# Altium footprint library SparkFun-Switches.PCBLIB: 50 footprints (part 3 of 5)
Each footprint in its own frame and in the unit in brackets; x right, y up, seen from the top. Pads: shape width x height; smd on the part's side, far side on the other; paste and mask are expansions set on the pad; w line width, h text height; cw(c..) or ccw(c..) is an arc to the next point about the centre after c.
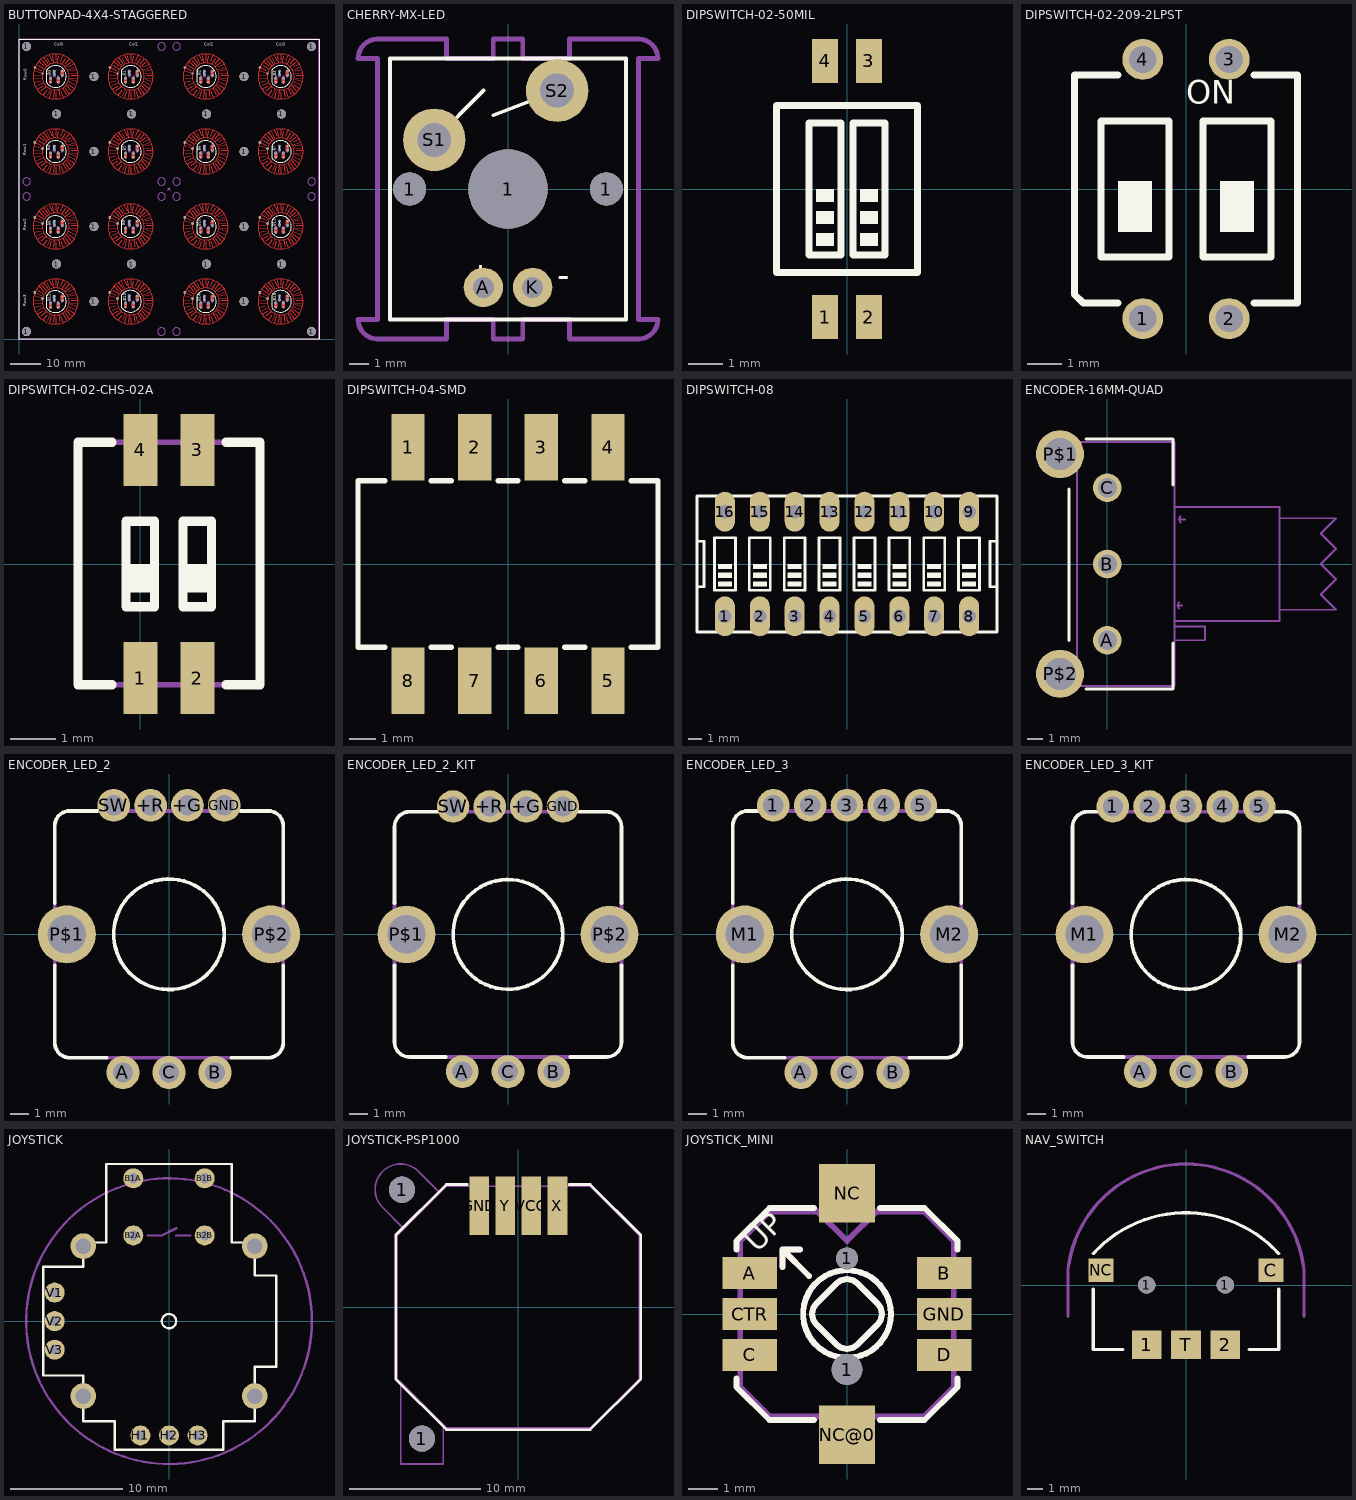
[diagram p2: the footprints below, top view; thin cyan lines are the x and y axes]

## BUTTONPAD-4X4-STAGGERED [mil]
pads (180):
  round 118.11 hole 118.11: 1(97.8,97.8) 1(97.8,3839.21) 1(492.13,984.25) 1(492.13,2952.76) 1(984.25,492.13) 1(984.25,1476.38) 1(984.25,2460.63) 1(984.25,3444.88) 1(1476.38,984.25) 1(1476.38,2952.76) 1(2460.63,984.25) 1(2460.63,2952.76) 1(2952.76,492.13) 1(2952.76,1476.38) 1(2952.76,2460.63) 1(2952.76,3444.88) 1(3444.88,984.25) 1(3444.88,2952.76) 1(3839.21,97.8) 1(3839.21,3839.21)
  round 36 hole 36: 1(413,467) 1(413,1452) 1(413,2437) 1(413,3422) 1(464,512) 1(464,1497) 1(464,2482) 1(464,3467) 1(515,467) 1(515,1452) 1(515,2437) 1(515,3422) 1(568,508) 1(568,1493) 1(568,2478) 1(568,3463) 1(1398,472) 1(1398,1452) 1(1398,2437) 1(1398,3422) 1(1449,517) 1(1449,1497) 1(1449,2482) 1(1449,3467) 1(1500,472) 1(1500,1452) 1(1500,2437) 1(1500,3422) 1(1553,513) 1(1553,1493) 1(1553,2478) 1(1553,3463) 1(2383,467) 1(2383,1452) 1(2383,2437) 1(2383,3422) 1(2434,512) 1(2434,1497) 1(2434,2482) 1(2434,3467) 1(2485,467) 1(2485,1452) 1(2485,2437) 1(2485,3422) 1(2538,508) 1(2538,1493) 1(2538,2478) 1(2538,3463) 1(3368,472) 1(3368,1452) 1(3368,2437) 1(3368,3422) 1(3419,517) 1(3419,1497) 1(3419,2482) 1(3419,3467) 1(3470,472) 1(3470,1452) 1(3470,2437) 1(3470,3422) 1(3523,513) 1(3523,1493) 1(3523,2478) 1(3523,3463)
  round 30 hole 20: BLU0(515,3371) BLU1(1500,3371) BLU2(2485,3371) BLU3(3470,3371) BLU4(515,2386) BLU5(1500,2386) BLU6(2485,2386) BLU7(3470,2386) BLU8(515,1401) BLU9(1500,1401) BLU10(2485,1401) BLU11(3470,1401) BLU12(515,416) BLU13(1500,421) BLU14(2485,416) BLU15(3470,421) GND0(464,3518) GND1(1449,3518) GND2(2434,3518) GND3(3419,3518) GND4(464,2533) GND5(1449,2533) GND6(2434,2533) GND7(3419,2533) GND8(464,1548) GND9(1449,1548) GND10(2434,1548) GND11(3419,1548) GND12(464,563) GND13(1449,568) GND14(2434,563) GND15(3419,568) GRN0(568,3514) GRN1(1553,3514) GRN2(2538,3514) GRN3(3523,3514) GRN4(568,2529) GRN5(1553,2529) GRN6(2538,2529) GRN7(3523,2529) GRN8(568,1544) GRN9(1553,1544) GRN10(2538,1544) GRN11(3523,1544) GRN12(568,559) GRN13(1553,564) GRN14(2538,559) GRN15(3523,564) RED0(413,3371) RED1(1398,3371) RED2(2383,3371) RED3(3368,3371) RED4(413,2386) RED5(1398,2386) RED6(2383,2386) RED7(3368,2386) RED8(413,1401) RED9(1398,1401) RED10(2383,1401) RED11(3368,1401) RED12(413,416) RED13(1398,421) RED14(2383,416) RED15(3368,421) SIG0(208.19,3563.5) SIG1(308.19,3483.5) SIG2(1192.44,3563.5) SIG3(1292.44,3483.5) SIG4(2176.69,3563.5) SIG5(2276.69,3483.5) SIG6(3160.94,3563.5) SIG7(3260.94,3483.5)
  round 35.43 hole 23.62: SIG8(208.19,2579.25) SIG9(308.19,2499.25) SIG10(1192.44,2579.25) SIG11(1292.44,2499.25) SIG12(2176.69,2579.25) SIG13(2276.69,2499.25) SIG14(3160.94,2579.25) SIG15(3260.94,2499.25) SIG16(208.19,1595) SIG17(308.19,1515) SIG18(1192.44,1595) SIG19(1292.44,1515) SIG20(2176.69,1595) SIG21(2276.69,1515) SIG22(3160.94,1595) SIG23(3260.94,1515) SIG24(208.19,610.75) SIG25(308.19,530.75) SIG26(1192.44,610.75) SIG27(1292.44,530.75) SIG28(2176.69,610.75) SIG29(2276.69,530.75) SIG30(3160.94,610.75) SIG31(3260.94,530.75)
Top Layer:
  circle w10: c480.32,1476.38 r295.28
  circle w10: c480.71,1476.77 r177.17
  circle w10: c1464.57,1476.38 r295.28
  circle w10: c1464.96,1476.77 r177.17
  circle w10: c480.32,492.13 r295.28
  circle w10: c480.71,492.52 r177.17
  circle w10: c1464.57,492.13 r295.28
  circle w10: c1464.96,492.52 r177.17
  circle w10: c2448.82,1476.38 r295.28
  circle w10: c2449.21,1476.77 r177.17
  circle w10: c3433.07,1476.38 r295.28
  circle w10: c3433.46,1476.77 r177.17
  circle w10: c2448.82,492.13 r295.28
  circle w10: c2449.21,492.52 r177.17
  circle w10: c3433.07,492.13 r295.28
  circle w10: c3433.46,492.52 r177.17
  circle w10: c480.32,3444.88 r295.28
  circle w10: c480.71,3445.28 r177.17
  circle w10: c1464.57,3444.88 r295.28
  circle w10: c1464.96,3445.28 r177.17
  circle w10: c480.32,2460.63 r295.28
  circle w10: c480.71,2461.02 r177.17
  circle w10: c1464.57,2460.63 r295.28
  circle w10: c1464.96,2461.02 r177.17
  circle w10: c2448.82,3444.88 r295.28
  circle w10: c2449.21,3445.28 r177.17
  circle w10: c3433.07,3444.88 r295.28
  circle w10: c3433.46,3445.28 r177.17
  circle w10: c2448.82,2460.63 r295.28
  circle w10: c2449.21,2461.02 r177.17
  circle w10: c3433.07,2460.63 r295.28
  circle w10: c3433.46,2461.02 r177.17
  lines w10: 185.83,512.2 276.38,506.69 ; 185.83,1496.46 276.38,1490.94 ; 185.83,2480.71 276.38,2475.2 ; 185.83,3464.96 276.38,3459.45 ; 198.43,414.17 287.8,434.25 ; 198.43,1398.43 287.8,1418.5 ; 198.43,2382.68 287.8,2402.76 ; 198.43,3366.93 287.8,3387.01 ; 211.02,611.81 292.13,570.87 ; 211.02,1596.06 292.13,1555.12 ; 211.02,2580.32 292.13,2539.37 ; 211.02,3564.57 292.13,3523.62 ; 212.99,560.63 304.72,531.5 ; 212.99,1544.88 304.72,1515.75 ; 212.99,2529.13 304.72,2500 ; 212.99,3513.39 304.72,3484.25 ; 214.17,462.6 304.72,468.11 ; 214.17,1446.85 304.72,1452.36 ; 214.17,2431.1 304.72,2436.61 ; 214.17,3415.35 304.72,3420.87 ; 241.34,324.8 316.14,368.9 ; 241.34,1309.06 316.14,1353.15 ; 241.34,2293.31 316.14,2337.4 ; 241.34,3277.56 316.14,3321.65 ; 243.7,373.23 322.44,410.24 ; 243.7,1357.48 322.44,1394.49 ; 243.7,2341.73 322.44,2378.74 ; 243.7,3325.98 322.44,3362.99 ; 253.15,636.22 328.74,585.83 ; 253.15,1620.47 328.74,1570.08 ; 253.15,2604.72 328.74,2554.33 ; 253.15,3588.98 328.74,3538.58 ; 263.78,688.98 322.83,629.92 ; 263.78,1673.23 322.83,1614.17 ; 263.78,2657.48 322.83,2598.43 ; 263.78,3641.73 322.83,3582.68 ; 286.61,298.43 359.45,359.45 ; 286.61,1282.68 359.45,1343.7 ; 286.61,2266.93 359.45,2327.95 ; 286.61,3251.18 359.45,3312.2 ; 305.51,698.43 365.75,631.89 ; 305.51,1682.68 365.75,1616.14 ; 305.51,2666.93 365.75,2600.39 ; 305.51,3651.18 365.75,3584.65 ; 319.29,249.21 371.65,320.08 ; 319.29,1233.46 371.65,1304.33 ; 319.29,2217.72 371.65,2288.58 ; 319.29,3201.97 371.65,3272.83 ; 322.44,736.22 378.35,663.78 ; 322.44,1720.47 378.35,1648.03 ; 322.44,2704.72 378.35,2632.28 ; 322.44,3688.98 378.35,3616.54 ; 368.11,739.37 411.81,661.42 ; 368.11,1723.62 411.81,1645.67 ; 368.11,2707.87 411.81,2629.92 ; 368.11,3692.13 411.81,3614.17 ; 372.83,243.7 411.81,325.98 ; 372.83,1227.95 411.81,1310.24 ; 372.83,2212.2 411.81,2294.49 ; 372.83,3196.46 411.81,3278.74 ; 395.28,772.05 428.35,696.06 ; 395.28,1756.3 428.35,1680.32 ; 395.28,2740.55 428.35,2664.57 ; 395.28,3724.8 428.35,3648.82 ; 400.39,213.39 429.53,297.24 ; 400.39,1197.64 429.53,1281.5 ; 400.39,2181.89 429.53,2265.75 ; 400.39,3166.14 429.53,3250 ; 441.34,765.75 456.3,672.05 ; 441.34,1750 456.3,1656.3 ; 441.34,2734.25 456.3,2640.55 ; 441.34,3718.5 456.3,3624.8 ; 452.36,222.83 465.75,312.2 ; 452.36,1207.09 465.75,1296.46 ; 452.36,2191.34 465.75,2280.71 ; 452.36,3175.59 465.75,3264.96 ; 480.32,703.54 480.32,785.83 ; 480.32,1687.8 480.32,1770.08 ; 480.32,2672.05 480.32,2754.33 ; 480.32,3656.3 480.32,3738.58 ; 488.98,199.21 491.73,287.01 ; 488.98,1183.46 491.73,1271.26 ; 488.98,2167.72 491.73,2255.51 ; 488.98,3151.97 491.73,3239.76 ; 503.54,674.02 523.62,759.45 ; 503.54,1658.27 523.62,1743.7 ; 503.54,2642.52 523.62,2727.95 ; 503.54,3626.77 523.62,3712.2 ; 519.29,316.54 537.01,225.98 ; 519.29,1300.79 537.01,1210.24 ; 519.29,2285.04 537.01,2194.49 ; 519.29,3269.29 537.01,3178.74 ; 539.37,689.76 572.05,768.9 ; 539.37,1674.02 572.05,1753.15 ; 539.37,2658.27 572.05,2737.4 ; 539.37,3642.52 572.05,3721.65 ; 553.15,300 582.28,224.02 ; 553.15,1284.25 582.28,1208.27 ; 553.15,2268.5 582.28,2192.52 ; 553.15,3252.76 582.28,3176.77 ; 558.27,653.15 611.81,728.74 ; 558.27,1637.4 611.81,1712.99 ; 558.27,2621.65 611.81,2697.24 ; 558.27,3605.91 611.81,3681.5 ; 575.2,338.58 623.23,256.3 ; 575.2,1322.83 623.23,1240.55 ; 575.2,2307.09 623.23,2224.8 ; 575.2,3291.34 623.23,3209.06 ; 597.24,655.12 658.27,724.8 ; 597.24,1639.37 658.27,1709.06 ; 597.24,2623.62 658.27,2693.31 ; 597.24,3607.87 658.27,3677.56 ; 605.51,620.47 677.56,677.17 ; 605.51,1604.72 677.56,1661.42 ; 605.51,2588.98 677.56,2645.67 ; 605.51,3573.23 677.56,3629.92 ; 612.99,332.28 659.06,263.78 ; 612.99,1316.54 659.06,1248.03 ; 612.99,2300.79 659.06,2232.28 ; 612.99,3285.04 659.06,3216.54 ; 618.11,376.38 677.56,314.17 ; 618.11,1360.63 677.56,1298.43 ; 618.11,2344.88 677.56,2282.68 ; 618.11,3329.13 677.56,3266.93 ; 637.01,577.17 724.41,616.14 ; 637.01,1561.42 724.41,1600.39 ; 637.01,2545.67 724.41,2584.65 ; 637.01,3529.92 724.41,3568.9 ; 643.31,612.2 722.44,654.33 ; 643.31,1596.46 722.44,1638.58 ; 643.31,2580.71 722.44,2622.83 ; 643.31,3564.96 722.44,3607.09 ; 649.61,429.13 730.71,388.98 ; 649.61,1413.39 730.71,1373.23 ; 649.61,2397.64 730.71,2357.48 ; 649.61,3381.89 730.71,3341.73 ; 653.94,525.98 748.43,538.58 ; 653.94,1510.24 748.43,1522.83 ; 653.94,2494.49 748.43,2507.09 ; 653.94,3478.74 748.43,3491.34 ; 655.12,382.68 723.23,332.28 ; 655.12,1366.93 723.23,1316.54 ; 655.12,2351.18 723.23,2300.79 ; 655.12,3335.43 723.23,3285.04 ; 661.42,475.2 750.79,468.9 ; 661.42,1459.45 750.79,1453.15 ; 661.42,2443.7 750.79,2437.4 ; 661.42,3427.95 750.79,3421.65 ; 672.83,563.78 760.24,580.32 ; 672.83,1548.03 760.24,1564.57 ; 672.83,2532.28 760.24,2548.82 ; 672.83,3516.54 760.24,3533.07 ; 679.13,448.03 764.57,420.47 ; 679.13,1432.28 764.57,1404.72 ; 679.13,2416.54 764.57,2388.98 ; 679.13,3400.79 764.57,3373.23 ; 684.25,502.76 770.87,501.57 ; 684.25,1487.01 770.87,1485.83 ; 684.25,2471.26 770.87,2470.08 ; 684.25,3455.51 770.87,3454.33 ; 1170.08,512.2 1260.63,506.69 ; 1170.08,1496.46 1260.63,1490.94 ; 1170.08,2480.71 1260.63,2475.2 ; 1170.08,3464.96 1260.63,3459.45 ; 1182.68,414.17 1272.05,434.25 ; 1182.68,1398.43 1272.05,1418.5 ; 1182.68,2382.68 1272.05,2402.76 ; 1182.68,3366.93 1272.05,3387.01 ; 1195.28,611.81 1276.38,570.87 ; 1195.28,1596.06 1276.38,1555.12 ; 1195.28,2580.32 1276.38,2539.37 ; 1195.28,3564.57 1276.38,3523.62 ; 1197.24,560.63 1288.98,531.5 ; 1197.24,1544.88 1288.98,1515.75 ; 1197.24,2529.13 1288.98,2500 ; 1197.24,3513.39 1288.98,3484.25 ; 1198.43,462.6 1288.98,468.11 ; 1198.43,1446.85 1288.98,1452.36 ; 1198.43,2431.1 1288.98,2436.61 ; 1198.43,3415.35 1288.98,3420.87 ; 1225.59,324.8 1300.39,368.9 ; 1225.59,1309.06 1300.39,1353.15 ; 1225.59,2293.31 1300.39,2337.4 ; 1225.59,3277.56 1300.39,3321.65 ; 1227.95,373.23 1306.69,410.24 ; 1227.95,1357.48 1306.69,1394.49 ; 1227.95,2341.73 1306.69,2378.74 ; 1227.95,3325.98 1306.69,3362.99 ; 1237.4,636.22 1312.99,585.83 ; 1237.4,1620.47 1312.99,1570.08 ; 1237.4,2604.72 1312.99,2554.33 ; 1237.4,3588.98 1312.99,3538.58 ; 1248.03,688.98 1307.09,629.92 ; 1248.03,1673.23 1307.09,1614.17 ; 1248.03,2657.48 1307.09,2598.43 ; 1248.03,3641.73 1307.09,3582.68 ; 1270.87,298.43 1343.7,359.45 ; 1270.87,1282.68 1343.7,1343.7 ; 1270.87,2266.93 1343.7,2327.95 ; 1270.87,3251.18 1343.7,3312.2 ; 1289.76,698.43 1350,631.89 ; 1289.76,1682.68 1350,1616.14 ; 1289.76,2666.93 1350,2600.39 ; 1289.76,3651.18 1350,3584.65 ; 1303.54,249.21 1355.91,320.08 ; 1303.54,1233.46 1355.91,1304.33 ; 1303.54,2217.72 1355.91,2288.58 ; 1303.54,3201.97 1355.91,3272.83 ; 1306.69,736.22 1362.6,663.78 ; 1306.69,1720.47 1362.6,1648.03 ; 1306.69,2704.72 1362.6,2632.28 ; 1306.69,3688.98 1362.6,3616.54 ; 1352.36,739.37 1396.06,661.42 ; 1352.36,1723.62 1396.06,1645.67 ; 1352.36,2707.87 1396.06,2629.92 ; 1352.36,3692.13 1396.06,3614.17 ; 1357.09,243.7 1396.06,325.98 ; 1357.09,1227.95 1396.06,1310.24 ; 1357.09,2212.2 1396.06,2294.49 ; 1357.09,3196.46 1396.06,3278.74 ; 1379.53,772.05 1412.6,696.06 ; 1379.53,1756.3 1412.6,1680.32 ; 1379.53,2740.55 1412.6,2664.57 ; 1379.53,3724.8 1412.6,3648.82 ; 1384.65,213.39 1413.78,297.24 ; 1384.65,1197.64 1413.78,1281.5 ; 1384.65,2181.89 1413.78,2265.75 ; 1384.65,3166.14 1413.78,3250 ; 1425.59,765.75 1440.55,672.05 ; 1425.59,1750 1440.55,1656.3 ; 1425.59,2734.25 1440.55,2640.55 ; 1425.59,3718.5 1440.55,3624.8 ; 1436.61,222.83 1450,312.2 ; 1436.61,1207.09 1450,1296.46 ; 1436.61,2191.34 1450,2280.71 ; 1436.61,3175.59 1450,3264.96 ; 1464.57,703.54 1464.57,785.83 ; 1464.57,1687.8 1464.57,1770.08 ; 1464.57,2672.05 1464.57,2754.33 ; 1464.57,3656.3 1464.57,3738.58 ; 1473.23,199.21 1475.98,287.01 ; 1473.23,1183.46 1475.98,1271.26 ; 1473.23,2167.72 1475.98,2255.51 ; 1473.23,3151.97 1475.98,3239.76 ; 1487.8,674.02 1507.87,759.45 ; 1487.8,1658.27 1507.87,1743.7 ; 1487.8,2642.52 1507.87,2727.95 ; 1487.8,3626.77 1507.87,3712.2 ; 1503.54,316.54 1521.26,225.98 ; 1503.54,1300.79 1521.26,1210.24 ; 1503.54,2285.04 1521.26,2194.49 ; 1503.54,3269.29 1521.26,3178.74 ; 1523.62,689.76 1556.3,768.9 ; 1523.62,1674.02 1556.3,1753.15 ; 1523.62,2658.27 1556.3,2737.4 ; 1523.62,3642.52 1556.3,3721.65 ; 1537.4,300 1566.54,224.02 ; 1537.4,1284.25 1566.54,1208.27 ; 1537.4,2268.5 1566.54,2192.52 ; 1537.4,3252.76 1566.54,3176.77 ; 1542.52,653.15 1596.06,728.74 ; 1542.52,1637.4 1596.06,1712.99 ; 1542.52,2621.65 1596.06,2697.24 ; 1542.52,3605.91 1596.06,3681.5 ; 1559.45,338.58 1607.48,256.3 ; 1559.45,1322.83 1607.48,1240.55 ; 1559.45,2307.09 1607.48,2224.8 ; 1559.45,3291.34 1607.48,3209.06 ; 1581.5,655.12 1642.52,724.8 ; 1581.5,1639.37 1642.52,1709.06 ; 1581.5,2623.62 1642.52,2693.31 ; 1581.5,3607.87 1642.52,3677.56 ; 1589.76,620.47 1661.81,677.17 ; 1589.76,1604.72 1661.81,1661.42 ; 1589.76,2588.98 1661.81,2645.67 ; 1589.76,3573.23 1661.81,3629.92 ; 1597.24,332.28 1643.31,263.78 ; 1597.24,1316.54 1643.31,1248.03 ; 1597.24,2300.79 1643.31,2232.28 ; 1597.24,3285.04 1643.31,3216.54 ; 1602.36,376.38 1661.81,314.17 ; 1602.36,1360.63 1661.81,1298.43 ; 1602.36,2344.88 1661.81,2282.68 ; 1602.36,3329.13 1661.81,3266.93 ; 1621.26,577.17 1708.66,616.14 ; 1621.26,1561.42 1708.66,1600.39 ; 1621.26,2545.67 1708.66,2584.65 ; 1621.26,3529.92 1708.66,3568.9 ; 1627.56,612.2 1706.69,654.33 ; 1627.56,1596.46 1706.69,1638.58 ; 1627.56,2580.71 1706.69,2622.83 ; 1627.56,3564.96 1706.69,3607.09 ; 1633.86,429.13 1714.96,388.98 ; 1633.86,1413.39 1714.96,1373.23 ; 1633.86,2397.64 1714.96,2357.48 ; 1633.86,3381.89 1714.96,3341.73 ; 1638.19,525.98 1732.68,538.58 ; 1638.19,1510.24 1732.68,1522.83 ; 1638.19,2494.49 1732.68,2507.09 ; 1638.19,3478.74 1732.68,3491.34 ; 1639.37,382.68 1707.48,332.28 ; 1639.37,1366.93 1707.48,1316.54 ; 1639.37,2351.18 1707.48,2300.79 ; 1639.37,3335.43 1707.48,3285.04 ; 1645.67,475.2 1735.04,468.9 ; 1645.67,1459.45 1735.04,1453.15 ; 1645.67,2443.7 1735.04,2437.4 ; 1645.67,3427.95 1735.04,3421.65 ; 1657.09,563.78 1744.49,580.32 ; 1657.09,1548.03 1744.49,1564.57 ; 1657.09,2532.28 1744.49,2548.82 ; 1657.09,3516.54 1744.49,3533.07 ; 1663.39,448.03 1748.82,420.47 ; 1663.39,1432.28 1748.82,1404.72 ; 1663.39,2416.54 1748.82,2388.98 ; 1663.39,3400.79 1748.82,3373.23 ; 1668.5,502.76 1755.12,501.57 ; 1668.5,1487.01 1755.12,1485.83 ; 1668.5,2471.26 1755.12,2470.08 ; 1668.5,3455.51 1755.12,3454.33 ; 2154.33,512.2 2244.88,506.69 ; 2154.33,1496.46 2244.88,1490.94 ; 2154.33,2480.71 2244.88,2475.2 ; 2154.33,3464.96 2244.88,3459.45 ; 2166.93,414.17 2256.3,434.25 ; 2166.93,1398.43 2256.3,1418.5 ; 2166.93,2382.68 2256.3,2402.76 ; 2166.93,3366.93 2256.3,3387.01 ; 2179.53,611.81 2260.63,570.87 ; 2179.53,1596.06 2260.63,1555.12 ; 2179.53,2580.32 2260.63,2539.37 ; 2179.53,3564.57 2260.63,3523.62 ; 2181.5,560.63 2273.23,531.5 ; 2181.5,1544.88 2273.23,1515.75 ; 2181.5,2529.13 2273.23,2500 ; 2181.5,3513.39 2273.23,3484.25 ; 2182.68,462.6 2273.23,468.11 ; 2182.68,1446.85 2273.23,1452.36 ; 2182.68,2431.1 2273.23,2436.61 ; 2182.68,3415.35 2273.23,3420.87 ; 2209.84,324.8 2284.65,368.9 ; 2209.84,1309.06 2284.65,1353.15 ; 2209.84,2293.31 2284.65,2337.4 ; 2209.84,3277.56 2284.65,3321.65 ; 2212.2,373.23 2290.94,410.24 ; 2212.2,1357.48 2290.94,1394.49 ; 2212.2,2341.73 2290.94,2378.74 ; 2212.2,3325.98 2290.94,3362.99 ; 2221.65,636.22 2297.24,585.83 ; 2221.65,1620.47 2297.24,1570.08 ; 2221.65,2604.72 2297.24,2554.33 ; 2221.65,3588.98 2297.24,3538.58 ; 2232.28,688.98 2291.34,629.92 ; 2232.28,1673.23 2291.34,1614.17 ; 2232.28,2657.48 2291.34,2598.43 ; 2232.28,3641.73 2291.34,3582.68 ; 2255.12,298.43 2327.95,359.45 ; 2255.12,1282.68 2327.95,1343.7 ; 2255.12,2266.93 2327.95,2327.95 ; 2255.12,3251.18 2327.95,3312.2 ; 2274.02,698.43 2334.25,631.89 ; 2274.02,1682.68 2334.25,1616.14 ; 2274.02,2666.93 2334.25,2600.39 ; 2274.02,3651.18 2334.25,3584.65 ; 2287.8,249.21 2340.16,320.08 ; 2287.8,1233.46 2340.16,1304.33 ; 2287.8,2217.72 2340.16,2288.58 ; 2287.8,3201.97 2340.16,3272.83 ; 2290.94,736.22 2346.85,663.78 ; 2290.94,1720.47 2346.85,1648.03 ; 2290.94,2704.72 2346.85,2632.28 ; 2290.94,3688.98 2346.85,3616.54 ; 2336.61,739.37 2380.32,661.42 ; 2336.61,1723.62 2380.32,1645.67 ; 2336.61,2707.87 2380.32,2629.92 ; 2336.61,3692.13 2380.32,3614.17 ; 2341.34,243.7 2380.32,325.98 ; 2341.34,1227.95 2380.32,1310.24 ; 2341.34,2212.2 2380.32,2294.49 ; 2341.34,3196.46 2380.32,3278.74 ; 2363.78,772.05 2396.85,696.06 ; 2363.78,1756.3 2396.85,1680.32 ; 2363.78,2740.55 2396.85,2664.57 ; 2363.78,3724.8 2396.85,3648.82 ; 2368.9,213.39 2398.03,297.24 ; 2368.9,1197.64 2398.03,1281.5 ; 2368.9,2181.89 2398.03,2265.75 ; 2368.9,3166.14 2398.03,3250 ; 2409.84,765.75 2424.8,672.05 ; 2409.84,1750 2424.8,1656.3 ; 2409.84,2734.25 2424.8,2640.55 ; 2409.84,3718.5 2424.8,3624.8 ; 2420.87,222.83 2434.25,312.2 ; 2420.87,1207.09 2434.25,1296.46 ; 2420.87,2191.34 2434.25,2280.71 ; 2420.87,3175.59 2434.25,3264.96 ; 2448.82,703.54 2448.82,785.83 ; 2448.82,1687.8 2448.82,1770.08 ; 2448.82,2672.05 2448.82,2754.33 ; 2448.82,3656.3 2448.82,3738.58 ; 2457.48,199.21 2460.24,287.01 ; 2457.48,1183.46 2460.24,1271.26 ; 2457.48,2167.72 2460.24,2255.51 ; 2457.48,3151.97 2460.24,3239.76 ; 2472.05,674.02 2492.13,759.45 ; 2472.05,1658.27 2492.13,1743.7 ; 2472.05,2642.52 2492.13,2727.95 ; 2472.05,3626.77 2492.13,3712.2 ; 2487.8,316.54 2505.51,225.98 ; 2487.8,1300.79 2505.51,1210.24 ; 2487.8,2285.04 2505.51,2194.49 ; 2487.8,3269.29 2505.51,3178.74 ; 2507.87,689.76 2540.55,768.9 ; 2507.87,1674.02 2540.55,1753.15 ; 2507.87,2658.27 2540.55,2737.4 ; 2507.87,3642.52 2540.55,3721.65 ; 2521.65,300 2550.79,224.02 ; 2521.65,1284.25 2550.79,1208.27 ; 2521.65,2268.5 2550.79,2192.52 ; 2521.65,3252.76 2550.79,3176.77 ; 2526.77,653.15 2580.32,728.74 ; 2526.77,1637.4 2580.32,1712.99 ; 2526.77,2621.65 2580.32,2697.24 ; 2526.77,3605.91 2580.32,3681.5 ; 2543.7,338.58 2591.73,256.3 ; 2543.7,1322.83 2591.73,1240.55 ; 2543.7,2307.09 2591.73,2224.8 ; 2543.7,3291.34 2591.73,3209.06 ; 2565.75,655.12 2626.77,724.8 ; 2565.75,1639.37 2626.77,1709.06 ; 2565.75,2623.62 2626.77,2693.31 ; 2565.75,3607.87 2626.77,3677.56 ; 2574.02,620.47 2646.06,677.17 ; 2574.02,1604.72 2646.06,1661.42 ; 2574.02,2588.98 2646.06,2645.67 ; 2574.02,3573.23 2646.06,3629.92 ; 2581.5,332.28 2627.56,263.78 ; 2581.5,1316.54 2627.56,1248.03 ; 2581.5,2300.79 2627.56,2232.28 ; 2581.5,3285.04 2627.56,3216.54 ; 2586.61,376.38 2646.06,314.17 ; 2586.61,1360.63 2646.06,1298.43 ; 2586.61,2344.88 2646.06,2282.68 ; 2586.61,3329.13 2646.06,3266.93 ; 2605.51,577.17 2692.91,616.14 ; 2605.51,1561.42 2692.91,1600.39 ; 2605.51,2545.67 2692.91,2584.65 ; 2605.51,3529.92 2692.91,3568.9 ; 2611.81,612.2 2690.94,654.33 ; 2611.81,1596.46 2690.94,1638.58 ; 2611.81,2580.71 2690.94,2622.83 ; 2611.81,3564.96 2690.94,3607.09 ; 2618.11,429.13 2699.21,388.98 ; 2618.11,1413.39 2699.21,1373.23 ; 2618.11,2397.64 2699.21,2357.48 ; 2618.11,3381.89 2699.21,3341.73 ; 2622.44,525.98 2716.93,538.58 ; 2622.44,1510.24 2716.93,1522.83 ; 2622.44,2494.49 2716.93,2507.09 ; 2622.44,3478.74 2716.93,3491.34 ; 2623.62,382.68 2691.73,332.28 ; 2623.62,1366.93 2691.73,1316.54 ; 2623.62,2351.18 2691.73,2300.79 ; 2623.62,3335.43 2691.73,3285.04 ; 2629.92,475.2 2719.29,468.9 ; 2629.92,1459.45 2719.29,1453.15 ; 2629.92,2443.7 2719.29,2437.4 ; 2629.92,3427.95 2719.29,3421.65 ; 2641.34,563.78 2728.74,580.32 ; 2641.34,1548.03 2728.74,1564.57 ; 2641.34,2532.28 2728.74,2548.82 ; 2641.34,3516.54 2728.74,3533.07 ; 2647.64,448.03 2733.07,420.47 ; 2647.64,1432.28 2733.07,1404.72 ; 2647.64,2416.54 2733.07,2388.98 ; 2647.64,3400.79 2733.07,3373.23 ; 2652.76,502.76 2739.37,501.57 ; 2652.76,1487.01 2739.37,1485.83 ; 2652.76,2471.26 2739.37,2470.08 ; 2652.76,3455.51 2739.37,3454.33 ; 3138.58,512.2 3229.13,506.69 ; 3138.58,1496.46 3229.13,1490.94 ; 3138.58,2480.71 3229.13,2475.2 ; 3138.58,3464.96 3229.13,3459.45 ; 3151.18,414.17 3240.55,434.25 ; 3151.18,1398.43 3240.55,1418.5 ; 3151.18,2382.68 3240.55,2402.76 ; 3151.18,3366.93 3240.55,3387.01 ; 3163.78,611.81 3244.88,570.87 ; 3163.78,1596.06 3244.88,1555.12 ; 3163.78,2580.32 3244.88,2539.37 ; 3163.78,3564.57 3244.88,3523.62 ; 3165.75,560.63 3257.48,531.5 ; 3165.75,1544.88 3257.48,1515.75 ; 3165.75,2529.13 3257.48,2500 ; 3165.75,3513.39 3257.48,3484.25 ; 3166.93,462.6 3257.48,468.11 ; 3166.93,1446.85 3257.48,1452.36 ; 3166.93,2431.1 3257.48,2436.61 ; 3166.93,3415.35 3257.48,3420.87 ; 3194.09,324.8 3268.9,368.9 ; 3194.09,1309.06 3268.9,1353.15 ; 3194.09,2293.31 3268.9,2337.4 ; 3194.09,3277.56 3268.9,3321.65 ; 3196.46,373.23 3275.2,410.24 ; 3196.46,1357.48 3275.2,1394.49 ; 3196.46,2341.73 3275.2,2378.74 ; 3196.46,3325.98 3275.2,3362.99 ; 3205.91,636.22 3281.5,585.83 ; 3205.91,1620.47 3281.5,1570.08 ; 3205.91,2604.72 3281.5,2554.33 ; 3205.91,3588.98 3281.5,3538.58 ; 3216.54,688.98 3275.59,629.92 ; 3216.54,1673.23 3275.59,1614.17 ; 3216.54,2657.48 3275.59,2598.43 ; 3216.54,3641.73 3275.59,3582.68 ; 3239.37,298.43 3312.2,359.45 ; 3239.37,1282.68 3312.2,1343.7 ; 3239.37,2266.93 3312.2,2327.95 ; 3239.37,3251.18 3312.2,3312.2 ; 3258.27,698.43 3318.5,631.89 ; 3258.27,1682.68 3318.5,1616.14 ; 3258.27,2666.93 3318.5,2600.39 ; 3258.27,3651.18 3318.5,3584.65 ; 3272.05,249.21 3324.41,320.08 ; 3272.05,1233.46 3324.41,1304.33 ; 3272.05,2217.72 3324.41,2288.58 ; 3272.05,3201.97 3324.41,3272.83 ; 3275.2,736.22 3331.1,663.78 ; 3275.2,1720.47 3331.1,1648.03 ; 3275.2,2704.72 3331.1,2632.28 ; 3275.2,3688.98 3331.1,3616.54 ; 3320.87,739.37 3364.57,661.42 ; 3320.87,1723.62 3364.57,1645.67 ; 3320.87,2707.87 3364.57,2629.92 ; 3320.87,3692.13 3364.57,3614.17 ; 3325.59,243.7 3364.57,325.98 ; 3325.59,1227.95 3364.57,1310.24 ; 3325.59,2212.2 3364.57,2294.49 ; 3325.59,3196.46 3364.57,3278.74 ; 3348.03,772.05 3381.1,696.06 ; 3348.03,1756.3 3381.1,1680.32 ; 3348.03,2740.55 3381.1,2664.57 ; 3348.03,3724.8 3381.1,3648.82 ; 3353.15,213.39 3382.28,297.24 ; 3353.15,1197.64 3382.28,1281.5 ; 3353.15,2181.89 3382.28,2265.75 ; 3353.15,3166.14 3382.28,3250 ; 3394.09,765.75 3409.06,672.05 ; 3394.09,1750 3409.06,1656.3 ; 3394.09,2734.25 3409.06,2640.55 ; 3394.09,3718.5 3409.06,3624.8 ; 3405.12,222.83 3418.5,312.2 ; 3405.12,1207.09 3418.5,1296.46 ; 3405.12,2191.34 3418.5,2280.71 ; 3405.12,3175.59 3418.5,3264.96 ; 3433.07,703.54 3433.07,785.83 ; 3433.07,1687.8 3433.07,1770.08 ; 3433.07,2672.05 3433.07,2754.33 ; 3433.07,3656.3 3433.07,3738.58 ; 3441.73,199.21 3444.49,287.01 ; 3441.73,1183.46 3444.49,1271.26 ; 3441.73,2167.72 3444.49,2255.51 ; 3441.73,3151.97 3444.49,3239.76 ; 3456.3,674.02 3476.38,759.45 ; 3456.3,1658.27 3476.38,1743.7 ; 3456.3,2642.52 3476.38,2727.95 ; 3456.3,3626.77 3476.38,3712.2 ; 3472.05,316.54 3489.76,225.98 ; 3472.05,1300.79 3489.76,1210.24 ; 3472.05,2285.04 3489.76,2194.49 ; 3472.05,3269.29 3489.76,3178.74 ; 3492.13,689.76 3524.8,768.9 ; 3492.13,1674.02 3524.8,1753.15 ; 3492.13,2658.27 3524.8,2737.4 ; 3492.13,3642.52 3524.8,3721.65 ; 3505.91,300 3535.04,224.02 ; 3505.91,1284.25 3535.04,1208.27 ; 3505.91,2268.5 3535.04,2192.52 ; 3505.91,3252.76 3535.04,3176.77 ; 3511.02,653.15 3564.57,728.74 ; 3511.02,1637.4 3564.57,1712.99 ; 3511.02,2621.65 3564.57,2697.24 ; 3511.02,3605.91 3564.57,3681.5 ; 3527.95,338.58 3575.98,256.3 ; 3527.95,1322.83 3575.98,1240.55 ; 3527.95,2307.09 3575.98,2224.8 ; 3527.95,3291.34 3575.98,3209.06 ; 3550,655.12 3611.02,724.8 ; 3550,1639.37 3611.02,1709.06 ; 3550,2623.62 3611.02,2693.31 ; 3550,3607.87 3611.02,3677.56 ; 3558.27,620.47 3630.32,677.17 ; 3558.27,1604.72 3630.32,1661.42 ; 3558.27,2588.98 3630.32,2645.67 ; 3558.27,3573.23 3630.32,3629.92 ; 3565.75,332.28 3611.81,263.78 ; 3565.75,1316.54 3611.81,1248.03 ; 3565.75,2300.79 3611.81,2232.28 ; 3565.75,3285.04 3611.81,3216.54 ; 3570.87,376.38 3630.32,314.17 ; 3570.87,1360.63 3630.32,1298.43 ; 3570.87,2344.88 3630.32,2282.68 ; 3570.87,3329.13 3630.32,3266.93 ; 3589.76,577.17 3677.17,616.14 ; 3589.76,1561.42 3677.17,1600.39 ; 3589.76,2545.67 3677.17,2584.65 ; 3589.76,3529.92 3677.17,3568.9 ; 3596.06,612.2 3675.2,654.33 ; 3596.06,1596.46 3675.2,1638.58 ; 3596.06,2580.71 3675.2,2622.83 ; 3596.06,3564.96 3675.2,3607.09 ; 3602.36,429.13 3683.46,388.98 ; 3602.36,1413.39 3683.46,1373.23 ; 3602.36,2397.64 3683.46,2357.48 ; 3602.36,3381.89 3683.46,3341.73 ; 3606.69,525.98 3701.18,538.58 ; 3606.69,1510.24 3701.18,1522.83 ; 3606.69,2494.49 3701.18,2507.09 ; 3606.69,3478.74 3701.18,3491.34 ; 3607.87,382.68 3675.98,332.28 ; 3607.87,1366.93 3675.98,1316.54 ; 3607.87,2351.18 3675.98,2300.79 ; 3607.87,3335.43 3675.98,3285.04 ; 3614.17,475.2 3703.54,468.9 ; 3614.17,1459.45 3703.54,1453.15 ; 3614.17,2443.7 3703.54,2437.4 ; 3614.17,3427.95 3703.54,3421.65 ; 3625.59,563.78 3712.99,580.32 ; 3625.59,1548.03 3712.99,1564.57 ; 3625.59,2532.28 3712.99,2548.82 ; 3625.59,3516.54 3712.99,3533.07 ; 3631.89,448.03 3717.32,420.47 ; 3631.89,1432.28 3717.32,1404.72 ; 3631.89,2416.54 3717.32,2388.98 ; 3631.89,3400.79 3717.32,3373.23 ; 3637.01,502.76 3723.62,501.57 ; 3637.01,1487.01 3723.62,1485.83 ; 3637.01,2471.26 3723.62,2470.08 ; 3637.01,3455.51 3723.62,3454.33
  lines w45: 413,416 413,467 ; 413,1401 413,1452 ; 413,2386 413,2437 ; 413,3371 413,3422 ; 515,416 515,467 ; 515,1401 515,1452 ; 515,2386 515,2437 ; 515,3371 515,3422 ; 568,508 568,559 ; 568,1493 568,1544 ; 568,2478 568,2529 ; 568,3463 568,3514 ; 1398,421 1398,472 ; 1398,1401 1398,1452 ; 1398,2386 1398,2437 ; 1398,3371 1398,3422 ; 1500,421 1500,472 ; 1500,1401 1500,1452 ; 1500,2386 1500,2437 ; 1500,3371 1500,3422 ; 1553,513 1553,564 ; 1553,1493 1553,1544 ; 1553,2478 1553,2529 ; 1553,3463 1553,3514 ; 2383,416 2383,467 ; 2383,1401 2383,1452 ; 2383,2386 2383,2437 ; 2383,3371 2383,3422 ; 2485,416 2485,467 ; 2485,1401 2485,1452 ; 2485,2386 2485,2437 ; 2485,3371 2485,3422 ; 2538,508 2538,559 ; 2538,1493 2538,1544 ; 2538,2478 2538,2529 ; 2538,3463 2538,3514 ; 3368,421 3368,472 ; 3368,1401 3368,1452 ; 3368,2386 3368,2437 ; 3368,3371 3368,3422 ; 3470,421 3470,472 ; 3470,1401 3470,1452 ; 3470,2386 3470,2437 ; 3470,3371 3470,3422 ; 3523,513 3523,564 ; 3523,1493 3523,1544 ; 3523,2478 3523,2529 ; 3523,3463 3523,3514
Bottom Layer:
  lines w44: 464,512 464,563 ; 464,1497 464,1548 ; 464,2482 464,2533 ; 464,3467 464,3518 ; 1449,517 1449,568 ; 1449,1497 1449,1548 ; 1449,2482 1449,2533 ; 1449,3467 1449,3518 ; 2434,512 2434,563 ; 2434,1497 2434,1548 ; 2434,2482 2434,2533 ; 2434,3467 2434,3518 ; 3419,517 3419,568 ; 3419,1497 3419,1548 ; 3419,2482 3419,2533 ; 3419,3467 3419,3518
  lines w45: 413,416 413,467 ; 413,1401 413,1452 ; 413,2386 413,2437 ; 413,3371 413,3422 ; 515,416 515,467 ; 515,1401 515,1452 ; 515,2386 515,2437 ; 515,3371 515,3422 ; 568,508 568,559 ; 568,1493 568,1544 ; 568,2478 568,2529 ; 568,3463 568,3514 ; 1398,421 1398,472 ; 1398,1401 1398,1452 ; 1398,2386 1398,2437 ; 1398,3371 1398,3422 ; 1500,421 1500,472 ; 1500,1401 1500,1452 ; 1500,2386 1500,2437 ; 1500,3371 1500,3422 ; 1553,513 1553,564 ; 1553,1493 1553,1544 ; 1553,2478 1553,2529 ; 1553,3463 1553,3514 ; 2383,416 2383,467 ; 2383,1401 2383,1452 ; 2383,2386 2383,2437 ; 2383,3371 2383,3422 ; 2485,416 2485,467 ; 2485,1401 2485,1452 ; 2485,2386 2485,2437 ; 2485,3371 2485,3422 ; 2538,508 2538,559 ; 2538,1493 2538,1544 ; 2538,2478 2538,2529 ; 2538,3463 2538,3514 ; 3368,421 3368,472 ; 3368,1401 3368,1452 ; 3368,2386 3368,2437 ; 3368,3371 3368,3422 ; 3470,421 3470,472 ; 3470,1401 3470,1452 ; 3470,2386 3470,2437 ; 3470,3371 3470,3422 ; 3523,513 3523,564 ; 3523,1493 3523,1544 ; 3523,2478 3523,2529 ; 3523,3463 3523,3514
Top Overlay:
  lines w8: 464,512 464,563 ; 464,1497 464,1548 ; 464,2482 464,2533 ; 464,3467 464,3518 ; 1449,517 1449,568 ; 1449,1497 1449,1548 ; 1449,2482 1449,2533 ; 1449,3467 1449,3518 ; 2434,512 2434,563 ; 2434,1497 2434,1548 ; 2434,2482 2434,2533 ; 2434,3467 2434,3518 ; 3419,517 3419,568 ; 3419,1497 3419,1548 ; 3419,2482 3419,2533 ; 3419,3467 3419,3518 ; 0,0 3937.01,0 3937.01,3937.01 0,3937.01 0,0 ; 360.08,411.26 360.08,568.74 cw(c478.19,490) 360.08,411.26 ; 360.08,1396.26 360.08,1553.74 cw(c478.19,1475) 360.08,1396.26 ; 360.08,2381.26 360.08,2538.74 cw(c478.19,2460) 360.08,2381.26 ; 360.08,3366.26 360.08,3523.74 cw(c478.19,3445) 360.08,3366.26 ; 1345.08,416.26 1345.08,573.74 cw(c1463.19,495) 1345.08,416.26 ; 1345.08,1396.26 1345.08,1553.74 cw(c1463.19,1475) 1345.08,1396.26 ; 1345.08,2381.26 1345.08,2538.74 cw(c1463.19,2460) 1345.08,2381.26 ; 1345.08,3366.26 1345.08,3523.74 cw(c1463.19,3445) 1345.08,3366.26 ; 2330.08,411.26 2330.08,568.74 cw(c2448.19,490) 2330.08,411.26 ; 2330.08,1396.26 2330.08,1553.74 cw(c2448.19,1475) 2330.08,1396.26 ; 2330.08,2381.26 2330.08,2538.74 cw(c2448.19,2460) 2330.08,2381.26 ; 2330.08,3366.26 2330.08,3523.74 cw(c2448.19,3445) 2330.08,3366.26 ; 3315.08,416.26 3315.08,573.74 cw(c3433.19,495) 3315.08,416.26 ; 3315.08,1396.26 3315.08,1553.74 cw(c3433.19,1475) 3315.08,1396.26 ; 3315.08,2381.26 3315.08,2538.74 cw(c3433.19,2460) 3315.08,2381.26 ; 3315.08,3366.26 3315.08,3523.74 cw(c3433.19,3445) 3315.08,3366.26
  text "B8" at 429.57,1487.6 h62
  text "B9" at 1409.57,1491.85 h62
  text "B12" at 428.82,493.07 h62
  text "B13" at 1418.82,502.32 h62
  text "B10" at 2399.57,1476.57 h62
  text "B11" at 3384.57,1480.83 h62
  text "B14" at 2398.82,496.57 h62
  text "B15" at 3388.82,500.83 h62
  text "B0" at 431.06,3462.6 h62
  text "B1" at 1416.06,3456.85 h62
  text "B4" at 425.32,2477.6 h62
  text "B5" at 1415.31,2471.85 h62
  text "B2" at 2401.06,3461.1 h62
  text "B3" at 3386.06,3455.35 h62
  text "B6" at 2400.32,2471.1 h62
  text "B7" at 3385.32,2470.35 h62
  text "Col0" at 462.6,3838.58 h62
  text "Col1" at 1446.85,3838.58 h62
  text "Col2" at 2431.1,3838.58 h62
  text "Col3" at 3375.98,3838.58 h62
  text "Row0" at 118.11,3395.67 h62
  text "Row1" at 108.27,2411.42 h62
  text "Row2" at 108.27,1427.17 h62
  text "Row3" at 108.27,433.07 h62
Top Solder:
  drawing of 672 lines, arcs and shapes, not listed
Bottom Solder:
  lines w45: 413,416 413,467 ; 413,1401 413,1452 ; 413,2386 413,2437 ; 413,3371 413,3422 ; 464,512 464,563 ; 464,1497 464,1548 ; 464,2482 464,2533 ; 464,3467 464,3518 ; 515,416 515,467 ; 515,1401 515,1452 ; 515,2386 515,2437 ; 515,3371 515,3422 ; 568,508 568,559 ; 568,1493 568,1544 ; 568,2478 568,2529 ; 568,3463 568,3514 ; 1398,421 1398,472 ; 1398,1401 1398,1452 ; 1398,2386 1398,2437 ; 1398,3371 1398,3422 ; 1449,517 1449,568 ; 1449,1497 1449,1548 ; 1449,2482 1449,2533 ; 1449,3467 1449,3518 ; 1500,421 1500,472 ; 1500,1401 1500,1452 ; 1500,2386 1500,2437 ; 1500,3371 1500,3422 ; 1553,513 1553,564 ; 1553,1493 1553,1544 ; 1553,2478 1553,2529 ; 1553,3463 1553,3514 ; 2383,416 2383,467 ; 2383,1401 2383,1452 ; 2383,2386 2383,2437 ; 2383,3371 2383,3422 ; 2434,512 2434,563 ; 2434,1497 2434,1548 ; 2434,2482 2434,2533 ; 2434,3467 2434,3518 ; 2485,416 2485,467 ; 2485,1401 2485,1452 ; 2485,2386 2485,2437 ; 2485,3371 2485,3422 ; 2538,508 2538,559 ; 2538,1493 2538,1544 ; 2538,2478 2538,2529 ; 2538,3463 2538,3514 ; 3368,421 3368,472 ; 3368,1401 3368,1452 ; 3368,2386 3368,2437 ; 3368,3371 3368,3422 ; 3419,517 3419,568 ; 3419,1497 3419,1548 ; 3419,2482 3419,2533 ; 3419,3467 3419,3518 ; 3470,421 3470,472 ; 3470,1401 3470,1452 ; 3470,2386 3470,2437 ; 3470,3371 3470,3422 ; 3523,513 3523,564 ; 3523,1493 3523,1544 ; 3523,2478 3523,2529 ; 3523,3463 3523,3514
Mechanical 16:
  circle w1: c99,98 r50
  circle w1: c99,1870 r49
  circle w1: c1870,98 r50
  circle w1: c1870,1870 r49
  circle w1: c99,2067 r49
  circle w1: c99,3839 r49
  circle w1: c1870,2067 r49
  circle w1: c1870,3839 r49
  circle w1: c2067,98 r50
  circle w1: c2067,1870 r49
  circle w1: c3839,98 r50
  circle w1: c3839,1870 r49
  circle w1: c2067,2067 r49
  circle w1: c2067,3839 r49
  circle w1: c3839,2067 r49
  circle w1: c3839,3839 r49
  rectangle: 501.7,3434.3 527.7,3455.3
  rectangle: 452.3,3434.3 478.3,3455.3
  rectangle: 403,3434.3 429,3455.3
  rectangle: 551,3434.3 577,3455.3
  rectangle: 1486.7,3434.3 1512.7,3455.3
  rectangle: 1437.3,3434.3 1463.3,3455.3
  rectangle: 1388,3434.3 1414,3455.3
  rectangle: 1536,3434.3 1562,3455.3
  rectangle: 2471.7,3434.3 2497.7,3455.3
  rectangle: 2422.3,3434.3 2448.3,3455.3
  rectangle: 2373,3434.3 2399,3455.3
  rectangle: 2521,3434.3 2547,3455.3
  rectangle: 3456.7,3434.3 3482.7,3455.3
  rectangle: 3407.3,3434.3 3433.3,3455.3
  rectangle: 3358,3434.3 3384,3455.3
  rectangle: 3506,3434.3 3532,3455.3
  rectangle: 501.7,2449.3 527.7,2470.3
  rectangle: 452.3,2449.3 478.3,2470.3
  rectangle: 403,2449.3 429,2470.3
  rectangle: 551,2449.3 577,2470.3
  rectangle: 1486.7,2449.3 1512.7,2470.3
  rectangle: 1437.3,2449.3 1463.3,2470.3
  rectangle: 1388,2449.3 1414,2470.3
  rectangle: 1536,2449.3 1562,2470.3
  rectangle: 2471.7,2449.3 2497.7,2470.3
  rectangle: 2422.3,2449.3 2448.3,2470.3
  rectangle: 2373,2449.3 2399,2470.3
  rectangle: 2521,2449.3 2547,2470.3
  rectangle: 3456.7,2449.3 3482.7,2470.3
  rectangle: 3407.3,2449.3 3433.3,2470.3
  rectangle: 3358,2449.3 3384,2470.3
  rectangle: 3506,2449.3 3532,2470.3
  rectangle: 501.7,1464.3 527.7,1485.3
  rectangle: 452.3,1464.3 478.3,1485.3
  rectangle: 403,1464.3 429,1485.3
  rectangle: 551,1464.3 577,1485.3
  rectangle: 1486.7,1464.3 1512.7,1485.3
  rectangle: 1437.3,1464.3 1463.3,1485.3
  rectangle: 1388,1464.3 1414,1485.3
  rectangle: 1536,1464.3 1562,1485.3
  rectangle: 2471.7,1464.3 2497.7,1485.3
  rectangle: 2422.3,1464.3 2448.3,1485.3
  rectangle: 2373,1464.3 2399,1485.3
  rectangle: 2521,1464.3 2547,1485.3
  rectangle: 3456.7,1464.3 3482.7,1485.3
  rectangle: 3407.3,1464.3 3433.3,1485.3
  rectangle: 3358,1464.3 3384,1485.3
  rectangle: 3506,1464.3 3532,1485.3
  rectangle: 501.7,479.3 527.7,500.3
  rectangle: 452.3,479.3 478.3,500.3
  rectangle: 403,479.3 429,500.3
  rectangle: 551,479.3 577,500.3
  rectangle: 1486.7,484.3 1512.7,505.3
  rectangle: 1437.3,484.3 1463.3,505.3
  rectangle: 1388,484.3 1414,505.3
  rectangle: 1536,484.3 1562,505.3
  rectangle: 2471.7,479.3 2497.7,500.3
  rectangle: 2422.3,479.3 2448.3,500.3
  rectangle: 2373,479.3 2399,500.3
  rectangle: 2521,479.3 2547,500.3
  rectangle: 3456.7,484.3 3482.7,505.3
  rectangle: 3407.3,484.3 3433.3,505.3
  rectangle: 3358,484.3 3384,505.3
  rectangle: 3506,484.3 3532,505.3
  lines w1: 1949,1949 1988,1988 ; 1949,1988 1988,1949 ; 0,0 0,3937 3937,3937 3937,0 0,0

## CHERRY-MX-LED [mil]
pads (7):
  round 67.2 hole 67.2: 1(-200,0) 1(200,0)
  round 161 hole 161: 1(0,0)
  round 80 hole 43: A(-50,-200) K(50,-200)
  round 127 hole 69: S1(-150,100) S2(100,200)
Top Overlay:
  lines w8: -150,100 -50,200 ; -30,150 100,200 ; -240,-265 240,-265 240,265 -240,265 -240,-265
  text "+" at -85,-200 h51
  text "-" at 100,-200 h51
Mechanical 16:
  lines w10: -305,-265 ccw(c-265,-265) -265,-305 -125,-305 -125,-265 -30,-265 -30,-305 30,-305 30,-265 125,-265 125,-305 265,-305 ccw(c265,-265) 305,-265 265,-265 265,265 305,265 ccw(c265,265) 265,305 125,305 125,265 30,265 30,305 -30,305 -30,265 -125,265 -125,305 -265,305 ccw(c-265,265) -305,265 -265,265 -265,-265 -305,-265

## DIPSWITCH-02-50MIL [mil]
pads (4):
  rect 30x50 smd: 1(-25,-145.67) 2(25,-145.67) 3(25,145.67) 4(-25,145.67)
Top Overlay:
  rectangle: -35,-15 -15,0
  rectangle: -35,-40 -15,-25
  rectangle: -35,-65 -15,-50
  rectangle: 15,-15 35,0
  rectangle: 15,-40 35,-25
  rectangle: 15,-65 35,-50
  lines w8: -80,-95 80,-95 80,95 -80,95 -80,-95 ; -43,-75 -43,75 -7,75 -7,-75 -43,-75 ; 7,-75 7,75 43,75 43,-75 7,-75
Mechanical 16:
  text "1" at -40,-165 h62
  text "ON" at -75,50 h49.6
  text "2" at 10,-165 h62

## DIPSWITCH-02-209-2LPST [mil]
pads (4):
  round 47.25 hole 31.5: 1(-50,-150) 2(50,-150) 3(50,150) 4(-50,150)
Top Overlay:
  rectangle: 39.37,-50 78.74,9.06
  rectangle: -78.74,-50 -39.37,9.06
  lines w8: -78.74,-131.89 -118.94,-131.89 -128.94,-121.89 -128.94,131.89 -78.74,131.89 ; 78.74,-131.89 128.94,-131.89 128.94,131.89 ; 78.74,131.89 128.74,131.89 ; -98.43,-78.74 -19.69,-78.74 -19.69,78.74 -98.43,78.74 -98.43,-78.74 ; 19.69,-78.74 98.43,-78.74 98.43,78.74 19.69,78.74 19.69,-78.74
  text "ON" at 0,98.43 h27.2

## DIPSWITCH-02-CHS-02A [mil]
pads (4):
  rect 29.92x62.99 smd: 1(0,-100) 2(50,-100) 3(50,100) 4(0,100)
Top Overlay:
  rectangle: -12.5,-25 12.5,0
  rectangle: 37.5,-25 62.5,0
  lines w8: -25,-105.83 -54.8,-105.83 -54.8,106.77 -25,106.77 ; 75,-105.83 105.05,-105.83 105.05,106.77 75,106.77 ; -12.5,-37.5 12.5,-37.5 12.5,37.5 -12.5,37.5 -12.5,-37.5 ; 37.5,-37.5 62.5,-37.5 62.5,37.5 37.5,37.5 37.5,-37.5
Mechanical 16:
  lines w5: -25,-105.83 75,-105.83 ; -25,106.77 75,106.77
  text "O" at 12.5,62.5 h49.6
  text "N" at 62.5,62.5 h49.6
  text "1" at 12.5,-75 h49.6
  text "2" at 62.5,-75 h49.6

## DIPSWITCH-04-SMD [mil]
pads (8):
  rect 50x100 smd: 1(-150,175) 2(-50,175) 3(50,175) 4(150,175) 5(150,-175) 6(50,-175) 7(-50,-175) 8(-150,-175)
Top Overlay:
  lines w8: -185,-125 -225,-125 -225,125 -185,125 ; -115,-125 -85,-125 ; -115,125 -85,125 ; -15,-125 15,-125 ; -15,125 15,125 ; 85,-125 115,-125 ; 85,125 115,125 ; 185,-125 225,-125 225,125 185,125

## DIPSWITCH-08 [mil]
pads (16):
  oval 57.28x114.57 hole 38.19: 1(-350,-150) 2(-250,-150) 3(-150,-150) 4(-50,-150) 5(50,-150) 6(150,-150) 7(250,-150) 8(350,-150) 9(350,150) 10(250,150) 11(150,150) 12(50,150) 13(-50,150) 14(-150,150) 15(-250,150) 16(-350,150)
Top Overlay:
  rectangle: 330,-15 370,0
  rectangle: 330,-40 370,-25
  rectangle: 330,-65 370,-50
  rectangle: 230,-15 270,0
  rectangle: 230,-40 270,-25
  rectangle: 230,-65 270,-50
  rectangle: 130,-15 170,0
  rectangle: 130,-40 170,-25
  rectangle: 130,-65 170,-50
  rectangle: 30,-15 70,0
  rectangle: 30,-40 70,-25
  rectangle: 30,-65 70,-50
  rectangle: -70,-15 -30,0
  rectangle: -70,-40 -30,-25
  rectangle: -70,-65 -30,-50
  rectangle: -170,-15 -130,0
  rectangle: -170,-40 -130,-25
  rectangle: -170,-65 -130,-50
  rectangle: -270,-15 -230,0
  rectangle: -270,-40 -230,-25
  rectangle: -270,-65 -230,-50
  rectangle: -370,-15 -330,0
  rectangle: -370,-40 -330,-25
  rectangle: -370,-65 -330,-50
  lines w8: -430,-65 -410,-65 -410,65 -430,65 ; -430,-65 -430,-195 430,-195 430,-65 ; -430,-65 -430,65 ; -430,65 -430,195 430,195 430,65 ; 430,-65 410,-65 410,65 430,65 ; 430,-65 430,65 ; -380,-75 -380,75 -320,75 -320,-75 -380,-75 ; -280,-75 -280,75 -220,75 -220,-75 -280,-75 ; -180,-75 -180,75 -120,75 -120,-75 -180,-75 ; -80,-75 -80,75 -20,75 -20,-75 -80,-75 ; 20,-75 20,75 80,75 80,-75 20,-75 ; 120,-75 120,75 180,75 180,-75 120,-75 ; 220,-75 220,75 280,75 280,-75 220,-75 ; 320,-75 320,75 380,75 380,-75 320,-75
Mechanical 16:
  text "1" at -360,-165 h93
  text "ON" at -400,100 h93
  text "2" at -270,-165 h93
  text "3" at -170,-165 h93
  text "4" at -70,-165 h93
  text "5" at 30,-165 h93
  text "6" at 130,-165 h93
  text "7" at 230,-165 h93
  text "8" at 330,-165 h93

## ENCODER-16MM-QUAD [mm]
pads (5):
  round 1.875 hole 1.25: A(0,-5) B(0,0) C(0,5)
  round 3.15 hole 2.1: P$1(-3.1,7.2) P$2(-3.1,-7.2)
Top Overlay:
  lines w0.203: -2.5,-5 -2.5,4.9 ; -1.4,-8.2 4.3,-8.2 4.3,-5.2 ; -1.4,8.2 4.3,8.2 4.3,5.2
Mechanical 16:
  lines w0.127: 4.7,-2.93 4.6,-2.73 ; 4.7,-2.53 4.6,-2.73 ; 4.8,2.73 4.7,2.93 ; 4.8,3.13 4.7,2.93 ; 4.9,-2.73 4.6,-2.73 ; 5.1,2.93 4.7,2.93 ; 4.4,-5 4.4,-4.1 ; 4.4,-5 4.4,-8 -2,-8 -2,8 4.4,8 4.4,3.73 ; 4.4,-5 6.4,-5 6.4,-4.1 4.4,-4.1 ; 4.4,-4.1 4.4,-3.73 ; 4.4,-3.73 4.4,3.73 ; 4.4,-3.73 11.3,-3.73 11.3,-3 ; 4.4,3.73 11.3,3.73 11.3,3 ; 11.3,-3 11.3,3 ; 11.3,-3 15,-3 14,-2 15,-1 14,0 15,1 14,2 15,3 11.3,3
  text "Mounting Surface" at 5.138,-2.114 h0.63
  text "*3mm diameter x 2mm tab at 6 o'clock (from front)" at 6.715,-4.826 h0.63

## ENCODER_LED_2 [mil]
pads (9):
  round 70 hole 43.31: +G(39.37,275.59) +R(-39.37,275.59) GND(118.11,275.59) SW(-118.11,275.59)
  round 70.87 hole 43.31: A(-98.43,-295.28) B(98.43,-295.28) C(0,-295.28)
  round 124.02 hole 82.68: P$1(-218.5,0) P$2(218.5,0)
Top Overlay:
  circle w8: c0,0 r118.11
  lines w8: -244.09,-66.93 -244.09,-232.04 ccw(c-212.35,-232.04) -212.35,-263.78 -133.86,-263.78 ; -244.09,66.93 -244.09,232.04 cw(c-212.35,232.04) -212.35,263.78 -153.54,263.78 ; 133.86,-263.78 212.35,-263.78 ccw(c212.35,-232.04) 244.09,-232.04 244.09,-66.93 ; 153.54,263.78 212.35,263.78 cw(c212.35,232.04) 244.09,232.04 244.09,66.93
Mechanical 16:
  lines w8: -244.09,-66.93 -244.09,66.93 ; -153.54,263.78 153.54,263.78 ; -133.86,-263.78 133.86,-263.78 ; 244.09,-66.93 244.09,66.93

## ENCODER_LED_2_KIT [mil]
pads (9):
  round 70 hole 43.31: +G(39.37,275.59) +R(-39.37,275.59) GND(118.11,275.59) SW(-118.11,275.59)
  round 70.87 hole 43.31: A(-98.43,-295.28) B(98.43,-295.28) C(0,-295.28)
  round 124.02 hole 82.68: P$1(-218.5,0) P$2(218.5,0)
Top Overlay:
  circle w8: c0,0 r118.11
  lines w8: -244.09,-66.93 -244.09,-232.04 ccw(c-212.35,-232.04) -212.35,-263.78 -133.86,-263.78 ; -244.09,66.93 -244.09,232.04 cw(c-212.35,232.04) -212.35,263.78 -153.54,263.78 ; 133.86,-263.78 212.35,-263.78 ccw(c212.35,-232.04) 244.09,-232.04 244.09,-66.93 ; 153.54,263.78 212.35,263.78 cw(c212.35,232.04) 244.09,232.04 244.09,66.93
Top Solder:
  drawing of 9 lines, arcs and shapes, not listed
Bottom Solder:
  drawing of 9 lines, arcs and shapes, not listed
Mechanical 16:
  lines w8: -244.09,-66.93 -244.09,66.93 ; -153.54,263.78 153.54,263.78 ; -133.86,-263.78 133.86,-263.78 ; 244.09,-66.93 244.09,66.93

## ENCODER_LED_3 [mil]
pads (10):
  round 70 hole 43.31: 1(-157.48,275.59) 2(-78.74,275.59) 3(0,275.59) 4(78.74,275.59) 5(157.48,275.59)
  round 70.87 hole 43.31: A(-98.43,-295.28) B(98.43,-295.28) C(0,-295.28)
  round 124.02 hole 82.68: M1(-218.5,0) M2(218.5,0)
Top Overlay:
  circle w8: c0,0 r118.11
  lines w8: -244.09,-66.93 -244.09,-232.04 ccw(c-212.35,-232.04) -212.35,-263.78 -133.86,-263.78 ; -244.09,66.93 -244.09,232.04 cw(c-212.35,232.04) -212.35,263.78 -153.54,263.78 ; 133.86,-263.78 212.35,-263.78 ccw(c212.35,-232.04) 244.09,-232.04 244.09,-66.93 ; 153.54,263.78 212.35,263.78 cw(c212.35,232.04) 244.09,232.04 244.09,66.93
Mechanical 16:
  lines w8: -244.09,-66.93 -244.09,66.93 ; -153.54,263.78 153.54,263.78 ; -133.86,-263.78 133.86,-263.78 ; 244.09,-66.93 244.09,66.93

## ENCODER_LED_3_KIT [mil]
pads (10):
  round 70 hole 43.31: 1(-157.48,275.59) 2(-78.74,275.59) 3(0,275.59) 4(78.74,275.59) 5(157.48,275.59)
  round 70.87 hole 43.31: A(-98.43,-295.28) B(98.43,-295.28) C(0,-295.28)
  round 124.02 hole 82.68: M1(-218.5,0) M2(218.5,0)
Top Overlay:
  circle w8: c0,0 r118.11
  lines w8: -244.09,-66.93 -244.09,-232.04 ccw(c-212.35,-232.04) -212.35,-263.78 -133.86,-263.78 ; -244.09,66.93 -244.09,232.04 cw(c-212.35,232.04) -212.35,263.78 -153.54,263.78 ; 133.86,-263.78 212.35,-263.78 ccw(c212.35,-232.04) 244.09,-232.04 244.09,-66.93 ; 153.54,263.78 212.35,263.78 cw(c212.35,232.04) 244.09,232.04 244.09,66.93
Top Solder:
  drawing of 10 lines, arcs and shapes, not listed
Bottom Solder:
  drawing of 10 lines, arcs and shapes, not listed
Mechanical 16:
  lines w8: -244.09,-66.93 -244.09,66.93 ; -153.54,263.78 153.54,263.78 ; -133.86,-263.78 133.86,-263.78 ; 244.09,-66.93 244.09,66.93

## JOYSTICK [mil]
pads (14):
  round 70 hole 35.43: B1A(-125,500) B1B(125,500) B2A(-125,300) B2B(125,300)
  round 70 hole 35: H1(-100,-400) H2(0,-400) H3(100,-400) V1(-400,100) V2(-400,0) V3(-400,-100)
  round 90 hole 55: MOUNT1(-300,262.5) MOUNT2(-300,-262.5) MOUNT3(300,-262.5) MOUNT4(300,262.5)
Top Overlay:
  circle w8: c0,0 r25
  lines w8: -440,-190 -300,-190 -300,-350 -190,-350 -190,-450 190,-450 190,-350 300,-350 300,-160 375,-160 375,160 300,160 300,275 220,275 220,550 -220,550 -220,275 -300,275 -300,190 -440,190 -440,-190
Mechanical 16:
  circle w8: c0,0 r500
  lines w8: -75,300 -25,300 25,325 ; 25,300 75,300

## JOYSTICK-PSP1000 [mm]
pads (6):
  round 2 hole 2: 1(-8.89,8.985) 1(-7.375,-10.06)
  rect 1.5x4.5 smd: GND(-3,7.75) VCC(1,7.75) X(3,7.75) Y(-1,7.75)
Top Overlay:
  lines w0.203: -3.898,9.377 -5.5,9.377 -9.377,5.5 -9.377,-5.5 -5.5,-9.377 5.5,-9.377 9.377,-5.5 9.377,5.5 5.5,9.377 3.898,9.377
Mechanical 16:
  lines w0.127: -10.4,7.658 -8.75,6 ; -10.381,7.631 cw(c-9.006,9.006) -7.631,10.381 ; -7.65,10.408 -6,8.75 ; -9,-5.75 -9.25,-5.5 -9.25,5.5 -8.75,6 ; -9,-5.75 -5.75,-9 ; -9,-5.75 -9,-12 -5.75,-12 -5.75,-9 ; -8.75,6 -6,8.75 ; -6,8.75 -5.5,9.25 5.5,9.25 9.25,5.5 9.25,-5.5 5.5,-9.25 -5.5,-9.25 -5.75,-9

## JOYSTICK_MINI [mm]
pads (10):
  round 1.05 hole 1.05: 1(0,-1.9)
  round 0.75 hole 0.75: 1(0,1.9)
  rect 1.85x1.1 smd: A(-3.325,1.4) B(3.325,1.4) C(-3.325,-1.4) CTR(-3.325,0) D(3.325,-1.4) GND(3.325,0)
  rect 1.9x2 smd: NC(0,4.13) NC@0(0,-4.13)
Top Overlay:
  circle w0.203: c0,0 r1.5
  lines w0.203: -3.777,-2.199 -3.777,-2.5 -2.65,-3.627 -1.127,-3.627 ; -3.777,2.199 -3.777,2.5 -2.65,3.627 -1.127,3.627 ; -2.2,1.6 -2.2,2.2 ; -1.6,2.2 -2.2,2.2 ; -1.3,1.3 -2.2,2.2 ; 1.127,-3.627 2.65,-3.627 3.777,-2.5 3.777,-2.199 ; 1.127,3.627 2.65,3.627 3.777,2.5 3.777,2.199 ; -1.046,-0.354 -0.354,-1.046 ccw(c0,-0.693) 0.354,-1.046 1.046,-0.354 ccw(c0.693,0) 1.046,0.354 0.354,1.046 ccw(c0,0.693) -0.354,1.046 -1.046,0.354 ccw(c-0.693,0) -1.046,-0.354
  text "UP" at -2.9,1.9 h1.26
Mechanical 16:
  circle w0.203: c0,0 r1.5
  lines w0.203: -2.2,1.6 -2.2,2.2 ; -1.6,2.2 -2.2,2.2 ; -1.3,1.3 -2.2,2.2 ; -1,3.5 -2.65,3.5 -3.65,2.5 -3.65,-2.5 -2.65,-3.5 2.65,-3.5 3.65,-2.5 3.65,2.5 2.65,3.5 1,3.5 ; -1,3.5 0,2.5 1,3.5 ; -1,3.5 1,3.5 ; -1.046,-0.354 -0.354,-1.046 ccw(c0,-0.693) 0.354,-1.046 1.046,-0.354 ccw(c0.693,0) 1.046,0.354 0.354,1.046 ccw(c0,0.693) -0.354,1.046 -1.046,0.354 ccw(c-0.693,0) -1.046,-0.354
  text "UP" at -2.9,1.9 h1.26

## NAV_SWITCH [mil]
pads (7):
  rect 74.8x70.87 smd: 1(-98.43,-149.61) 2(98.43,-149.61) T(0,-149.61)
  round 43.31 hole 43.31: 1(-98.43,0) 1(98.43,0)
  rect 62.99x59.06 smd: C(212.6,37.4) NC(-212.6,37.4)
Top Overlay:
  lines w8: -232.28,-9.84 -232.28,-161.42 -157.48,-161.42 ; -232.28,78.74 cw(c0,-133.63) 232.28,78.74 ; 157.48,-161.42 232.28,-161.42 232.28,-9.84
Mechanical 16:
  lines w8: -295.28,-78.74 -295.28,39.37 cw(c0,5.99) 295.28,39.37 295.28,-78.74